# Altium footprint library PCB - CHOKE - KEMET SCF20-05-550.PCBLIB: 1 footprints
Each footprint in its own frame and in the unit in brackets; x right, y up, seen from the top. Pads: shape width x height; smd on the part's side, far side on the other; paste and mask are expansions set on the pad; w line width, h text height; cw(c..) or ccw(c..) is an arc to the next point about the centre after c.
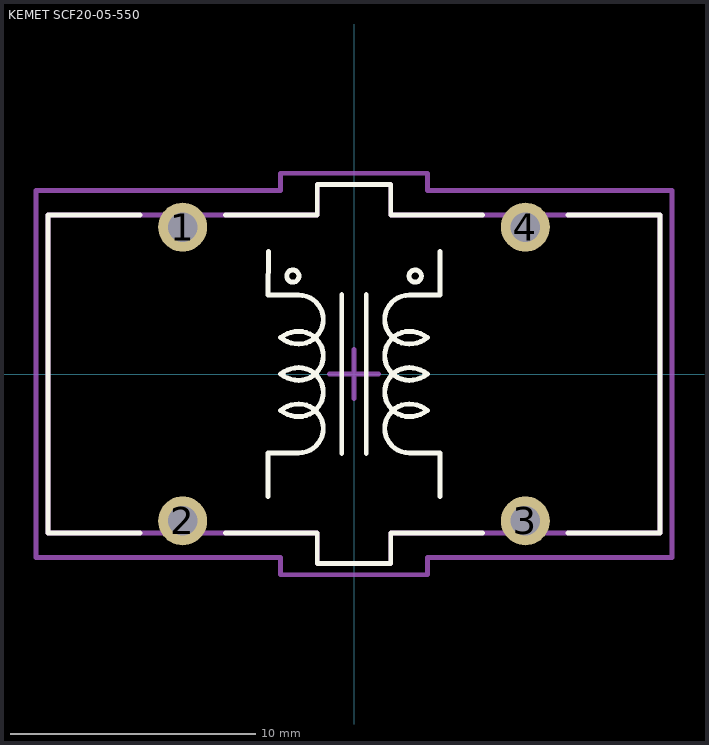
[diagram p0: the footprint, top view; thin cyan lines are the x and y axes]

## KEMET SCF20-05-550 [mm]
height 25
pads (4):
  round 2 hole 1.2: 1(-7,6) 2(-7,-6) 3(7,-6) 4(7,6)
Top Overlay:
  circle w0.2: c-2.5,4 r0.25
  circle w0.2: c2.5,4 r0.25
  lines w0.2: -8.75,-6.5 -12.5,-6.5 -12.5,6.5 -8.75,6.5 ; -5.25,-6.5 -1.5,-6.5 -1.5,-7.75 1.5,-7.75 1.5,-6.5 5.25,-6.5 ; -5.25,6.5 -1.5,6.5 -1.5,7.75 1.5,7.75 1.5,6.5 5.25,6.5 ; -3.506,-5 -3.506,-3.226 -2.256,-3.226 ccw(c-2.256,-2.226) -1.256,-2.226 ccw(c-2.256,-2.226) -2.256,-1.226 ccw(c-2.256,-2.426) -3,-1.484 ccw(c-2.256,-0.542) -2.256,-1.742 ccw(c-2.256,-0.742) -1.256,-0.742 ccw(c-2.256,-0.742) -2.256,0.258 ccw(c-2.256,-0.942) -3,0 ccw(c-2.256,0.942) -2.256,-0.258 ccw(c-2.256,0.742) -1.256,0.742 ccw(c-2.256,0.742) -2.256,1.742 ccw(c-2.256,0.542) -3,1.484 ccw(c-2.256,2.426) -2.256,1.226 ccw(c-2.256,2.226) -1.256,2.226 ccw(c-2.256,2.226) -2.256,3.226 -3.506,3.226 -3.5,5 ; -0.5,-3.25 -0.5,3.25 ; 0.5,-3.25 0.5,3.25 ; 3.506,-5 3.506,-3.226 2.256,-3.226 cw(c2.256,-2.226) 1.256,-2.226 cw(c2.256,-2.226) 2.256,-1.226 cw(c2.256,-2.426) 3,-1.484 cw(c2.256,-0.542) 2.256,-1.742 cw(c2.256,-0.742) 1.256,-0.742 cw(c2.256,-0.742) 2.256,0.258 cw(c2.256,-0.942) 3,0 cw(c2.256,0.942) 2.256,-0.258 cw(c2.256,0.742) 1.256,0.742 cw(c2.256,0.742) 2.256,1.742 cw(c2.256,0.542) 3,1.484 cw(c2.256,2.426) 2.256,1.226 cw(c2.256,2.226) 1.256,2.226 cw(c2.256,2.226) 2.256,3.226 3.506,3.226 3.513,5 ; 8.75,-6.5 12.5,-6.5 12.5,6.5 8.75,6.5
Top Assembly:
  lines w0.2: -12.5,-6.5 -1.5,-6.5 -1.5,-7.75 1.5,-7.75 1.5,-6.5 12.5,-6.5 12.5,6.5 1.5,6.5 1.5,7.75 -1.5,7.75 -1.5,6.5 -12.5,6.5 -12.5,-6.5
Top Courtyard (Mech15):
  lines w0.2: -1,0 1,0 ; 0,-1 0,1 ; -13,-7.5 -3,-7.5 -3,-8.2 3,-8.2 3,-7.5 13,-7.5 13,7.5 3,7.5 3,8.2 -3,8.2 -3,7.5 -13,7.5 -13,-7.5
3D body "KEMET SCF20-05-550.step": height 22.4, standoff -20, extent -12.5,-7.75 12.5,7.75